# EAGLE library part BEAGLEBONE_CAPE (library Boards)
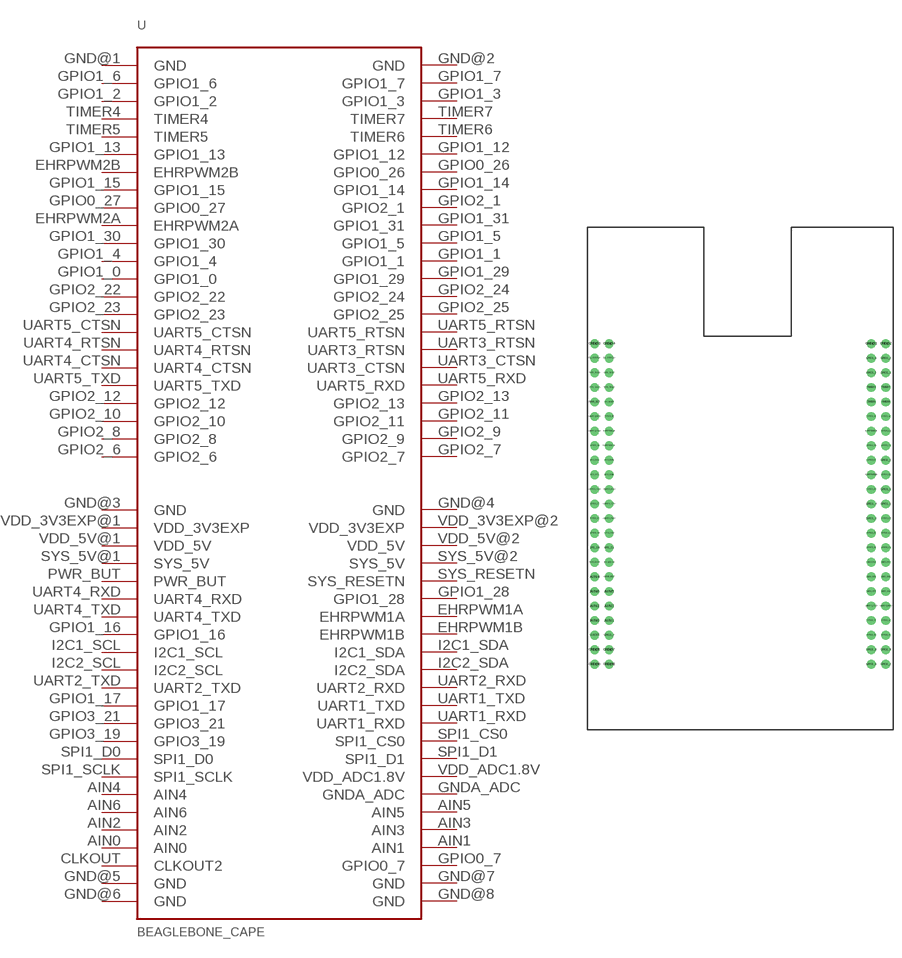
[diagram p0: symbol with the pads of BEAGLEBONE_CAPE; footprint BEAGLEBONE_CAPE]

Designator prefix -

## BEAGLEBONE_CAPE  [BEAGLEBONE_CAPE]
AIN0  AIN0
AIN1  AIN1
AIN2  AIN2
AIN3  AIN3
AIN4  AIN4
AIN5  AIN5
AIN6  AIN6
CLKOUT  CLKOUT2
EHRPWM1A  EHRPWM1A
EHRPWM1B  EHRPWM1B
EHRPWM2A  EHRPWM2A
EHRPWM2B  EHRPWM2B
GND@1  GND  pwr
GND@2  GND  pwr
GND@3  GND  pwr
GND@4  GND  pwr
GND@5  GND  pwr
GND@6  GND  pwr
GND@7  GND  pwr
GND@8  GND  pwr
GNDA_ADC  GNDA_ADC  pwr
GPIO0_7  GPIO0_7
GPIO0_26  GPIO0_26
GPIO0_27  GPIO0_27
GPIO1_0  GPIO1_0
GPIO1_1  GPIO1_1
GPIO1_2  GPIO1_2
GPIO1_3  GPIO1_3
GPIO1_4  GPIO1_4
GPIO1_5  GPIO1_5
GPIO1_6  GPIO1_6
GPIO1_7  GPIO1_7
GPIO1_12  GPIO1_12
GPIO1_13  GPIO1_13
GPIO1_14  GPIO1_14
GPIO1_15  GPIO1_15
GPIO1_16  GPIO1_16
GPIO1_17  GPIO1_17
GPIO1_28  GPIO1_28
GPIO1_29  GPIO1_29
GPIO1_30  GPIO1_30
GPIO1_31  GPIO1_31
GPIO2_1  GPIO2_1
GPIO2_6  GPIO2_6
GPIO2_7  GPIO2_7
GPIO2_8  GPIO2_8
GPIO2_9  GPIO2_9
GPIO2_10  GPIO2_10
GPIO2_11  GPIO2_11
GPIO2_12  GPIO2_12
GPIO2_13  GPIO2_13
GPIO2_22  GPIO2_22
GPIO2_23  GPIO2_23
GPIO2_24  GPIO2_24
GPIO2_25  GPIO2_25
GPIO3_19  GPIO3_19
GPIO3_21  GPIO3_21
I2C1_SCL  I2C1_SCL
I2C1_SDA  I2C1_SDA
I2C2_SCL  I2C2_SCL
I2C2_SDA  I2C2_SDA
PWR_BUT  PWR_BUT
SPI1_CS0  SPI1_CS0
SPI1_D0  SPI1_D0
SPI1_D1  SPI1_D1
SPI1_SCLK  SPI1_SCLK
SYS_5V@1  SYS_5V  pwr
SYS_5V@2  SYS_5V  pwr
SYS_RESETN  SYS_RESETN
TIMER4  TIMER4
TIMER5  TIMER5
TIMER6  TIMER6
TIMER7  TIMER7
UART1_RXD  UART1_RXD
UART1_TXD  UART1_TXD
UART2_RXD  UART2_RXD
UART2_TXD  UART2_TXD
UART3_CTSN  UART3_CTSN
UART3_RTSN  UART3_RTSN
UART4_CTSN  UART4_CTSN
UART4_RTSN  UART4_RTSN
UART4_RXD  UART4_RXD
UART4_TXD  UART4_TXD
UART5_CTSN  UART5_CTSN
UART5_RTSN  UART5_RTSN
UART5_RXD  UART5_RXD
UART5_TXD  UART5_TXD
VDD_3V3EXP@1  VDD_3V3EXP  pwr
VDD_3V3EXP@2  VDD_3V3EXP  pwr
VDD_5V@1  VDD_5V  pwr
VDD_5V@2  VDD_5V  pwr
VDD_ADC1.8V  VDD_ADC1.8V  pwr

## Footprint BEAGLEBONE_CAPE (pad centres in mm)
drill 1.016: AIN0 -25.4,-20.32; AIN1 -22.86,-20.32; AIN2 -25.4,-17.78; AIN3 -22.86,-17.78; AIN4 -25.4,-12.7; AIN5 -22.86,-15.24; AIN6 -25.4,-15.24; CLKOUT -25.4,-22.86; EHRPWM1A -22.86,12.7; EHRPWM1B -22.86,10.16; EHRPWM2A 22.86,5.08; EHRPWM2B 22.86,12.7; GND@1 22.86,27.94; GND@2 25.4,27.94; GND@3 -25.4,27.94; GND@4 -22.86,27.94; GND@5 -25.4,-25.4; GND@6 -25.4,-27.94; GND@7 -22.86,-25.4; GND@8 -22.86,-27.94; GNDA_ADC -22.86,-12.7; GPIO0_7 -22.86,-22.86; GPIO0_26 25.4,12.7; GPIO0_27 22.86,7.62; GPIO1_0 22.86,-2.54; GPIO1_1 25.4,0; GPIO1_2 22.86,22.86; GPIO1_3 25.4,22.86; GPIO1_4 22.86,0; GPIO1_5 25.4,2.54; GPIO1_6 22.86,25.4; GPIO1_7 25.4,25.4; GPIO1_12 25.4,15.24; GPIO1_13 22.86,15.24; GPIO1_14 25.4,10.16; GPIO1_15 22.86,10.16; GPIO1_16 -25.4,10.16; GPIO1_17 -25.4,0; GPIO1_28 -22.86,15.24; GPIO1_29 25.4,-2.54; GPIO1_30 22.86,2.54; GPIO1_31 25.4,5.08; GPIO2_1 25.4,7.62; GPIO2_6 22.86,-27.94; GPIO2_7 25.4,-27.94; GPIO2_8 22.86,-25.4; GPIO2_9 25.4,-25.4; GPIO2_10 22.86,-22.86; GPIO2_11 25.4,-22.86; GPIO2_12 22.86,-20.32; GPIO2_13 25.4,-20.32; GPIO2_22 22.86,-5.08; GPIO2_23 22.86,-7.62; GPIO2_24 25.4,-5.08; GPIO2_25 25.4,-7.62; GPIO3_19 -25.4,-5.08; GPIO3_21 -25.4,-2.54; I2C1_SCL -25.4,7.62; I2C1_SDA -22.86,7.62; I2C2_SCL -25.4,5.08; I2C2_SDA -22.86,5.08; PWR_BUT -25.4,17.78; SPI1_CS0 -22.86,-5.08; SPI1_D0 -25.4,-7.62; SPI1_D1 -22.86,-7.62; SPI1_SCLK -25.4,-10.16; SYS_5V@1 -25.4,20.32; SYS_5V@2 -22.86,20.32; SYS_RESETN -22.86,17.78; TIMER4 22.86,20.32; TIMER5 22.86,17.78; TIMER6 25.4,17.78; TIMER7 25.4,20.32; UART1_RXD -22.86,-2.54; UART1_TXD -22.86,0; UART2_RXD -22.86,2.54; UART2_TXD -25.4,2.54; UART3_CTSN 25.4,-15.24; UART3_RTSN 25.4,-12.7; UART4_CTSN 22.86,-15.24; UART4_RTSN 22.86,-12.7; UART4_RXD -25.4,15.24; UART4_TXD -25.4,12.7; UART5_CTSN 22.86,-10.16; UART5_RTSN 25.4,-10.16; UART5_RXD 25.4,-17.78; UART5_TXD 22.86,-17.78; VDD_3V3EXP@1 -25.4,25.4; VDD_3V3EXP@2 -22.86,25.4; VDD_5V@1 -25.4,22.86; VDD_5V@2 -22.86,22.86; VDD_ADC1.8V -22.86,-10.16